# Altium schematic symbol library Connectors.SCHLIB: 5 symbols
Pins are listed as number, name and electrical type; pins without a type are passive.

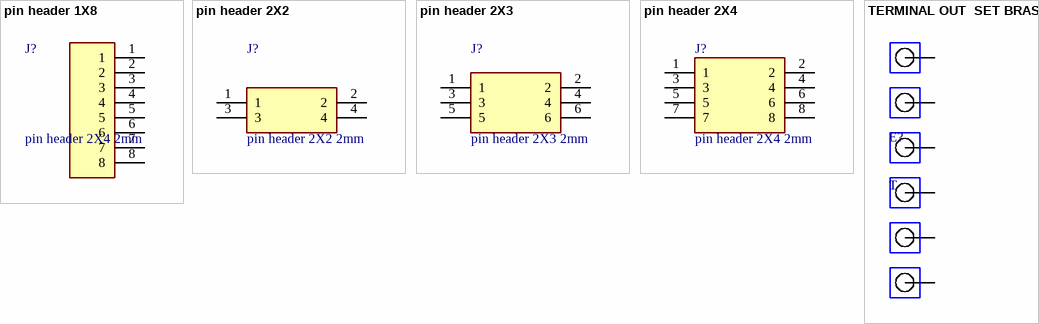
[diagram p0: symbols pin header 1X8 to TERMINAL OUT  SET BRASS]

## pin header 1X8
designator J?, comment pin header 2X4 2mm
pin header 2X4 2mm DIP; MP: TW-06-09-F-D-170-SM; MF: Samtec; Price: None; Purchase-URL: https://pricing.snapeda.com/search/part/TW-06-09-F-D-170-SM/?ref=eda; Package: None; Check_prices: https://www.snapeda.com/parts/TW-06-09-F-D-170-SM/Samtec/view-part/3525255/?ref=eda; SnapEDA_Link: https://www.snapeda.com/parts/TW-06-09-F-D-170-SM/Samtec/view-part/3525255/?ref=snap; Value: *; Availability: Bad
pins: 1, 2, 3, 4, 5, 6, 7, 8

## pin header 2X2
designator J?, comment pin header 2X2 2mm
pin header 2X4 2mm DIP; MP: TW-06-09-F-D-170-SM; MF: Samtec; Price: None; Purchase-URL: https://pricing.snapeda.com/search/part/TW-06-09-F-D-170-SM/?ref=eda; Package: None; Check_prices: https://www.snapeda.com/parts/TW-06-09-F-D-170-SM/Samtec/view-part/3525255/?ref=eda; SnapEDA_Link: https://www.snapeda.com/parts/TW-06-09-F-D-170-SM/Samtec/view-part/3525255/?ref=snap; Value: *; Availability: Bad
footprint pin header 2*2 2mm DIP STR (pin header 2*4 2mm DIP STR)
pins: 1, 2, 3, 4

## pin header 2X3
designator J?, comment pin header 2X3 2mm
pin header 2X4 2mm DIP; MP: TW-06-09-F-D-170-SM; MF: Samtec; Price: None; Purchase-URL: https://pricing.snapeda.com/search/part/TW-06-09-F-D-170-SM/?ref=eda; Package: None; Check_prices: https://www.snapeda.com/parts/TW-06-09-F-D-170-SM/Samtec/view-part/3525255/?ref=eda; SnapEDA_Link: https://www.snapeda.com/parts/TW-06-09-F-D-170-SM/Samtec/view-part/3525255/?ref=snap; Value: *; Availability: Bad
footprint pin header 2*3 2mm DIP STR
pins: 1, 2, 3, 4, 5, 6

## pin header 2X4
designator J?, comment pin header 2X4 2mm
pin header 2X4 2mm DIP; MP: TW-06-09-F-D-170-SM; MF: Samtec; Price: None; Purchase-URL: https://pricing.snapeda.com/search/part/TW-06-09-F-D-170-SM/?ref=eda; Package: None; Check_prices: https://www.snapeda.com/parts/TW-06-09-F-D-170-SM/Samtec/view-part/3525255/?ref=eda; SnapEDA_Link: https://www.snapeda.com/parts/TW-06-09-F-D-170-SM/Samtec/view-part/3525255/?ref=snap; Value: *; Availability: Bad
pins: 1, 2, 3, 4, 5, 6, 7, 8

## TERMINAL OUT  SET BRASS
designator E?, comment T
TERMINAL OUT  SET BRASS; Published: 24-Mar-1999; LatestRevisionDate: 17-Jul-2002; LatestRevisionNote: Re-released for DXP Platform.; PackageReference: PIN1; Publisher: Altium Limited
footprint TERMINAL OUT  SET BRASS
pins: 1, 2, 3, 4, 5, 6